# EAGLE library part MCIMX7D12X12 (library imx7d_1200X1200)
MCIMX7D Single ARM Cortex-A7 and Cortex-M4, 512 KB L2 Cache
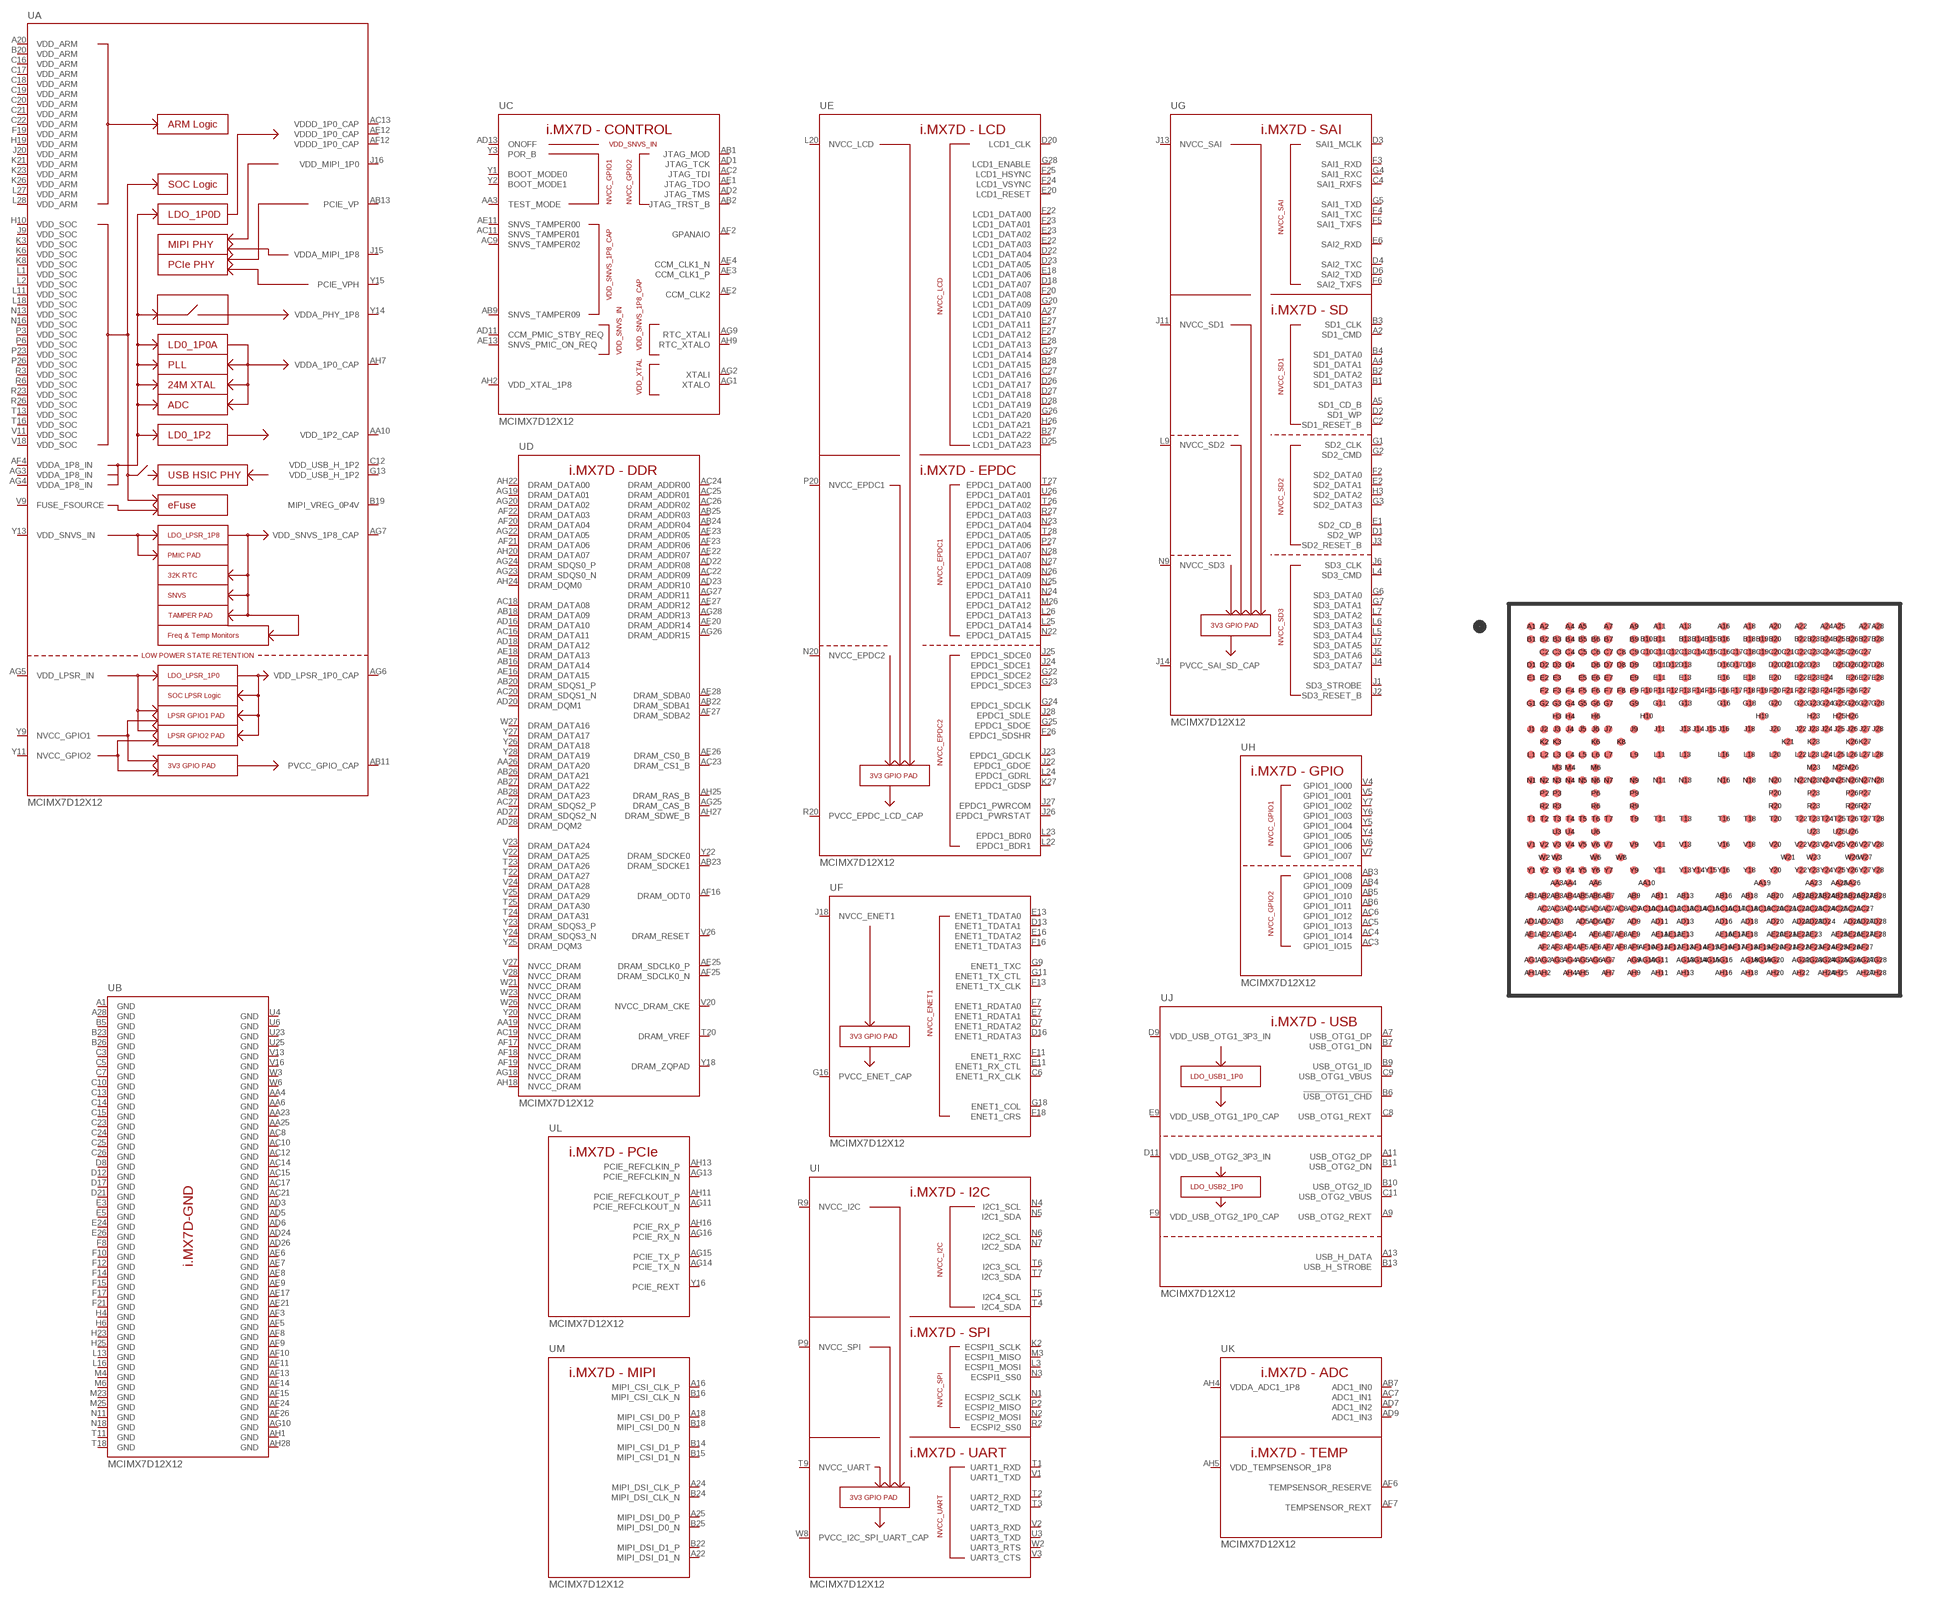
[diagram p0: symbol with the pads of BGA488C40P28X28_1200X1200X110N; footprint BGA488C40P28X28_1200X1200X110N]

Designator prefix U; gates A=I.MX7D-POWER B=I.MX7D-GND C=I.MX7D-CONTROL D=I.MX7D-DDR E=I.MX7D-DISPLAY F=I.MX7D-ENET G=I.MX7D-SAISD H=I.MX7D-GPIO I=I.MX7D-I2CSPIUART J=I.MX7D-USB K=I.MX7D-ADC L=I.MX7D-PCIE M=I.MX7D-MIPI

## MCIMX7D12X12  [BGA488C40P28X28_1200X1200X110N]
A1  B:GND  pwr
A2  G:SD1_CMD
A4  G:SD1_DATA1
A5  G:SD1_CD_B
A7  J:USB_OTG1_DP  pas
A9  J:USB_OTG2_REXT  pas
A11  J:USB_OTG2_DP  pas
A13  J:USB_H_DATA  pas
A16  M:MIPI_CSI_CLK_P  pas
A18  M:MIPI_CSI_D0_P  pas
A20  A:VDD_ARM  pwr
A22  M:MIPI_DSI_D1_N  pas
A24  M:MIPI_DSI_CLK_P  pas
A25  M:MIPI_DSI_D0_P  pas
A27  E:LCD1_DATA10
A28  B:GND  pwr
AA3  C:TEST_MODE  in
AA4  B:GND  pwr
AA6  B:GND  pwr
AA10  A:VDD_1P2_CAP  pwr
AA19  D:NVCC_DRAM  pwr
AA23  B:GND  pwr
AA25  B:GND  pwr
AA26  D:DRAM_DATA20
AB1  C:JTAG_MOD  in
AB2  C:JTAG_TRST_B  in
AB3  H:GPIO1_IO08
AB4  H:GPIO1_IO09
AB5  H:GPIO1_IO10
AB6  H:GPIO1_IO11
AB7  K:ADC1_IN0  pas
AB9  C:SNVS_TAMPER09  pas
AB11  A:PVCC_GPIO_CAP  pwr
AB13  A:PCIE_VP  pas
AB16  D:DRAM_DATA14
AB18  D:DRAM_DATA09
AB20  D:DRAM_SDQS1_P
AB22  D:DRAM_SDBA1
AB23  D:DRAM_SDCKE1
AB24  D:DRAM_ADDR04
AB25  D:DRAM_ADDR03
AB26  D:DRAM_DATA21
AB27  D:DRAM_DATA22
AB28  D:DRAM_DATA23
AC2  C:JTAG_TDI  in
AC3  H:GPIO1_IO15
AC4  H:GPIO1_IO14
AC5  H:GPIO1_IO13
AC6  H:GPIO1_IO12
AC7  K:ADC1_IN1  pas
AC8  B:GND  pwr
AC9  C:SNVS_TAMPER02  pas
AC10  B:GND  pwr
AC11  C:SNVS_TAMPER01  pas
AC12  B:GND  pwr
AC13  A:VDDD_1P0_CAP  pwr
AC14  B:GND  pwr
AC15  B:GND  pwr
AC16  D:DRAM_DATA11
AC17  B:GND  pwr
AC18  D:DRAM_DATA08
AC19  D:NVCC_DRAM  pwr
AC20  D:DRAM_SDQS1_N  pas
AC21  B:GND  pwr
AC22  D:DRAM_ADDR09
AC23  D:DRAM_CS1_B
AC24  D:DRAM_ADDR00
AC25  D:DRAM_ADDR01
AC26  D:DRAM_ADDR02
AC27  D:DRAM_SDQS2_P
AD1  C:JTAG_TCK  in
AD2  C:JTAG_TMS  in
AD3  B:GND  pwr
AD5  B:GND  pwr
AD6  B:GND  pwr
AD7  K:ADC1_IN2  pas
AD9  K:ADC1_IN3  pas
AD11  C:CCM_PMIC_STBY_REQ  pas
AD13  C:ONOFF  pas
AD16  D:DRAM_DATA10
AD18  D:DRAM_DATA12
AD20  D:DRAM_DQM1
AD22  D:DRAM_ADDR08
AD23  D:DRAM_ADDR10
AD24  B:GND  pwr
AD26  B:GND  pwr
AD27  D:DRAM_SDQS2_N  pas
AD28  D:DRAM_DQM2
AE1  C:JTAG_TDO  out
AE2  C:CCM_CLK2  pas
AE3  C:CCM_CLK1_P  pas
AE4  C:CCM_CLK1_N  pas
AE6  B:GND  pwr
AE7  B:GND  pwr
AE8  B:GND  pwr
AE9  B:GND  pwr
AE11  C:SNVS_TAMPER00  pas
AE12  A:VDDD_1P0_CAP  pwr
AE13  C:SNVS_PMIC_ON_REQ  pas
AE16  D:DRAM_DATA15
AE17  B:GND  pwr
AE18  D:DRAM_DATA13
AE20  D:DRAM_ADDR14
AE21  B:GND  pwr
AE22  D:DRAM_ADDR07
AE23  D:DRAM_ADDR05
AE25  D:DRAM_SDCLK0_P
AE26  D:DRAM_CS0_B
AE27  D:DRAM_ADDR12
AE28  D:DRAM_SDBA0
AF2  C:GPANAIO  pas
AF3  B:GND  pwr
AF4  A:VDDA_1P8_IN  pwr
AF5  B:GND  pwr
AF6  K:TEMPSENSOR_RESERVE  pas
AF7  K:TEMPSENSOR_REXT  pas
AF8  B:GND  pwr
AF9  B:GND  pwr
AF10  B:GND  pwr
AF11  B:GND  pwr
AF12  A:VDDD_1P0_CAP  pwr
AF13  B:GND  pwr
AF14  B:GND  pwr
AF15  B:GND  pwr
AF16  D:DRAM_ODT0
AF17  D:NVCC_DRAM  pwr
AF18  D:NVCC_DRAM  pwr
AF19  D:NVCC_DRAM  pwr
AF20  D:DRAM_DATA04
AF21  D:DRAM_DATA06
AF22  D:DRAM_DATA03
AF23  D:DRAM_ADDR06
AF24  B:GND  pwr
AF25  D:DRAM_SDCLK0_N  pas
AF26  B:GND  pwr
AF27  D:DRAM_SDBA2
AG1  C:XTALO  pas
AG2  C:XTALI  pas
AG3  A:VDDA_1P8_IN  pwr
AG4  A:VDDA_1P8_IN  pwr
AG5  A:VDD_LPSR_IN  pwr
AG6  A:VDD_LPSR_1P0_CAP  pwr
AG7  A:VDD_SNVS_1P8_CAP  pwr
AG9  C:RTC_XTALI  pas
AG10  B:GND  pwr
AG11  L:PCIE_REFCLKOUT_N  pas
AG13  L:PCIE_REFCLKIN_N  pas
AG14  L:PCIE_TX_N  pas
AG15  L:PCIE_TX_P  pas
AG16  L:PCIE_RX_N  pas
AG18  D:NVCC_DRAM  pwr
AG19  D:DRAM_DATA01
AG20  D:DRAM_DATA02
AG22  D:DRAM_DATA05
AG23  D:DRAM_SDQS0_N  pas
AG24  D:DRAM_SDQS0_P
AG25  D:DRAM_CAS_B
AG26  D:DRAM_ADDR15
AG27  D:DRAM_ADDR11
AG28  D:DRAM_ADDR13
AH1  B:GND  pwr
AH2  C:VDD_XTAL_1P8  pwr
AH4  K:VDDA_ADC1_1P8  pwr
AH5  K:VDD_TEMPSENSOR_1P8  pwr
AH7  A:VDDA_1P0_CAP  pwr
AH9  C:RTC_XTALO  pas
AH11  L:PCIE_REFCLKOUT_P  pas
AH13  L:PCIE_REFCLKIN_P  pas
AH16  L:PCIE_RX_P  pas
AH18  D:NVCC_DRAM  pwr
AH20  D:DRAM_DATA07
AH22  D:DRAM_DATA00
AH24  D:DRAM_DQM0
AH25  D:DRAM_RAS_B
AH27  D:DRAM_SDWE_B
AH28  B:GND  pwr
B1  G:SD1_DATA3
B2  G:SD1_DATA2
B3  G:SD1_CLK
B4  G:SD1_DATA0
B5  B:GND  pwr
B6  J:!USB_OTG1_CHD  pas
B7  J:USB_OTG1_DN  pas
B9  J:USB_OTG1_ID  pas
B10  J:USB_OTG2_ID  pas
B11  J:USB_OTG2_DN  pas
B13  J:USB_H_STROBE  pas
B14  M:MIPI_CSI_D1_P  pas
B15  M:MIPI_CSI_D1_N  pas
B16  M:MIPI_CSI_CLK_N  pas
B18  M:MIPI_CSI_D0_N  pas
B19  A:MIPI_VREG_0P4V  pas
B20  A:VDD_ARM  pwr
B22  M:MIPI_DSI_D1_P  pas
B23  B:GND  pwr
B24  M:MIPI_DSI_CLK_N  pas
B25  M:MIPI_DSI_D0_N  pas
B26  B:GND  pwr
B27  E:LCD1_DATA22
B28  E:LCD1_DATA15
C2  G:SD1_RESET_B
C3  B:GND  pwr
C4  G:SAI1_RXFS
C5  B:GND  pwr
C6  F:ENET1_RX_CLK
C7  B:GND  pwr
C8  J:USB_OTG1_REXT  pas
C9  J:USB_OTG1_VBUS  pas
C10  B:GND  pwr
C11  J:USB_OTG2_VBUS  pas
C12  A:VDD_USB_H_1P2  pwr
C13  B:GND  pwr
C14  B:GND  pwr
C15  B:GND  pwr
C16  A:VDD_ARM  pwr
C17  A:VDD_ARM  pwr
C18  A:VDD_ARM  pwr
C19  A:VDD_ARM  pwr
C20  A:VDD_ARM  pwr
C21  A:VDD_ARM  pwr
C22  A:VDD_ARM  pwr
C23  B:GND  pwr
C24  B:GND  pwr
C25  B:GND  pwr
C26  B:GND  pwr
C27  E:LCD1_DATA16
D1  G:SD2_WP
D2  G:SD1_WP
D3  G:SAI1_MCLK
D4  G:SAI2_TXC
D6  G:SAI2_TXD
D7  F:ENET1_RDATA2
D8  B:GND  pwr
D9  J:VDD_USB_OTG1_3P3_IN  pwr
D11  J:VDD_USB_OTG2_3P3_IN  pwr
D12  B:GND  pwr
D13  F:ENET1_TDATA1
D16  F:ENET1_RDATA3
D17  B:GND  pwr
D18  E:LCD1_DATA07
D20  E:LCD1_CLK
D21  B:GND  pwr
D22  E:LCD1_DATA04
D23  E:LCD1_DATA05
D25  E:LCD1_DATA23
D26  E:LCD1_DATA17
D27  E:LCD1_DATA18
D28  E:LCD1_DATA19
E1  G:SD2_CD_B
E2  G:SD2_DATA1
E3  B:GND  pwr
E5  B:GND  pwr
E6  G:SAI2_RXD
E7  F:ENET1_RDATA1
E9  J:VDD_USB_OTG1_1P0_CAP  pwr
E11  F:ENET1_RX_CTL
E13  F:ENET1_TDATA0
E16  F:ENET1_TDATA2
E18  E:LCD1_DATA06
E20  E:LCD1_RESET
E22  E:LCD1_DATA03
E23  E:LCD1_DATA02
E24  B:GND  pwr
E26  B:GND  pwr
E27  E:LCD1_DATA11
E28  E:LCD1_DATA13
F2  G:SD2_DATA0
F3  G:SAI1_RXD
F4  G:SAI1_TXC
F5  G:SAI1_TXFS
F6  G:SAI2_TXFS
F7  F:ENET1_RDATA0
F8  B:GND  pwr
F9  J:VDD_USB_OTG2_1P0_CAP  pwr
F10  B:GND  pwr
F11  F:ENET1_RXC
F12  B:GND  pwr
F13  F:ENET1_TX_CLK
F14  B:GND  pwr
F15  B:GND  pwr
F16  F:ENET1_TDATA3
F17  B:GND  pwr
F18  F:ENET1_CRS
F19  A:VDD_ARM  pwr
F20  E:LCD1_DATA08
F21  B:GND  pwr
F22  E:LCD1_DATA00
F23  E:LCD1_DATA01
F24  E:LCD1_VSYNC
F25  E:LCD1_HSYNC
F26  E:EPDC1_SDSHR
F27  E:LCD1_DATA12
G1  G:SD2_CLK
G2  G:SD2_CMD
G3  G:SD2_DATA3
G4  G:SAI1_RXC
G5  G:SAI1_TXD
G6  G:SD3_DATA0
G7  G:SD3_DATA1
G9  F:ENET1_TXC
G11  F:ENET1_TX_CTL
G13  A:VDD_USB_H_1P2  pwr
G16  F:PVCC_ENET_CAP  pwr
G18  F:ENET1_COL
G20  E:LCD1_DATA09
G22  E:EPDC1_SDCE2
G23  E:EPDC1_SDCE3
G24  E:EPDC1_SDCLK
G25  E:EPDC1_SDOE
G26  E:LCD1_DATA20
G27  E:LCD1_DATA14
G28  E:LCD1_ENABLE
H3  G:SD2_DATA2
H4  B:GND  pwr
H6  B:GND  pwr
H10  A:VDD_SOC  pwr
H19  A:VDD_ARM  pwr
H23  B:GND  pwr
H25  B:GND  pwr
H26  E:LCD1_DATA21
J1  G:SD3_STROBE
J2  G:SD3_RESET_B
J3  G:SD2_RESET_B
J4  G:SD3_DATA7
J5  G:SD3_DATA6
J6  G:SD3_CLK
J7  G:SD3_DATA5
J9  A:VDD_SOC  pwr
J11  G:NVCC_SD1  pwr
J13  G:NVCC_SAI  pwr
J14  G:PVCC_SAI_SD_CAP  pwr
J15  A:VDDA_MIPI_1P8  pwr
J16  A:VDD_MIPI_1P0  pwr
J18  F:NVCC_ENET1  pwr
J20  A:VDD_ARM  pwr
J22  E:EPDC1_GDOE
J23  E:EPDC1_GDCLK
J24  E:EPDC1_SDCE1
J25  E:EPDC1_SDCE0
J26  E:EPDC1_PWRSTAT
J27  E:EPDC1_PWRCOM
J28  E:EPDC1_SDLE
K2  I:ECSPI1_SCLK
K3  A:VDD_SOC  pwr
K6  A:VDD_SOC  pwr
K8  A:VDD_SOC  pwr
K21  A:VDD_ARM  pwr
K23  A:VDD_ARM  pwr
K26  A:VDD_ARM  pwr
K27  E:EPDC1_GDSP
L1  A:VDD_SOC  pwr
L2  A:VDD_SOC  pwr
L3  I:ECSPI1_MOSI
L4  G:SD3_CMD
L5  G:SD3_DATA4
L6  G:SD3_DATA3
L7  G:SD3_DATA2
L9  G:NVCC_SD2  pwr
L11  A:VDD_SOC  pwr
L13  B:GND  pwr
L16  B:GND  pwr
L18  A:VDD_SOC  pwr
L20  E:NVCC_LCD  pwr
L22  E:EPDC1_BDR1
L23  E:EPDC1_BDR0
L24  E:EPDC1_GDRL
L25  E:EPDC1_DATA14
L26  E:EPDC1_DATA13
L27  A:VDD_ARM  pwr
L28  A:VDD_ARM  pwr
M3  I:ECSPI1_MISO
M4  B:GND  pwr
M6  B:GND  pwr
M23  B:GND  pwr
M25  B:GND  pwr
M26  E:EPDC1_DATA12
N1  I:ECSPI2_SCLK
N2  I:ECSPI2_MOSI
N3  I:ECSPI1_SS0
N4  I:I2C1_SCL
N5  I:I2C1_SDA
N6  I:I2C2_SCL
N7  I:I2C2_SDA
N9  G:NVCC_SD3  pwr
N11  B:GND  pwr
N13  A:VDD_SOC  pwr
N16  A:VDD_SOC  pwr
N18  B:GND  pwr
N20  E:NVCC_EPDC2  pwr
N22  E:EPDC1_DATA15
N23  E:EPDC1_DATA04
N24  E:EPDC1_DATA11
N25  E:EPDC1_DATA10
N26  E:EPDC1_DATA09
N27  E:EPDC1_DATA08
N28  E:EPDC1_DATA07
P2  I:ECSPI2_MISO
P3  A:VDD_SOC  pwr
P6  A:VDD_SOC  pwr
P9  I:NVCC_SPI  pwr
P20  E:NVCC_EPDC1  pwr
P23  A:VDD_SOC  pwr
P26  A:VDD_SOC  pwr
P27  E:EPDC1_DATA06
R2  I:ECSPI2_SS0
R3  A:VDD_SOC  pwr
R6  A:VDD_SOC  pwr
R9  I:NVCC_I2C  pwr
R20  E:PVCC_EPDC_LCD_CAP  pwr
R23  A:VDD_SOC  pwr
R26  A:VDD_SOC  pwr
R27  E:EPDC1_DATA03
T1  I:UART1_RXD
T2  I:UART2_RXD
T3  I:UART2_TXD
T4  I:I2C4_SDA
T5  I:I2C4_SCL
T6  I:I2C3_SCL
T7  I:I2C3_SDA
T9  I:NVCC_UART  pwr
T11  B:GND  pwr
T13  A:VDD_SOC  pwr
T16  A:VDD_SOC  pwr
T18  B:GND  pwr
T20  D:DRAM_VREF  pas
T22  D:DRAM_DATA27
T23  D:DRAM_DATA26
T24  D:DRAM_DATA31
T25  D:DRAM_DATA30
T26  E:EPDC1_DATA02
T27  E:EPDC1_DATA00
T28  E:EPDC1_DATA05
U3  I:UART3_TXD
U4  B:GND  pwr
U6  B:GND  pwr
U23  B:GND  pwr
U25  B:GND  pwr
U26  E:EPDC1_DATA01
V1  I:UART1_TXD
V2  I:UART3_RXD
V3  I:UART3_CTS
V4  H:GPIO1_IO00
V5  H:GPIO1_IO01
V6  H:GPIO1_IO06
V7  H:GPIO1_IO07
V9  A:FUSE_FSOURCE  pas
V11  A:VDD_SOC  pwr
V13  B:GND  pwr
V16  B:GND  pwr
V18  A:VDD_SOC  pwr
V20  D:NVCC_DRAM_CKE  pwr
V22  D:DRAM_DATA25
V23  D:DRAM_DATA24
V24  D:DRAM_DATA28
V25  D:DRAM_DATA29
V26  D:DRAM_RESET
V27  D:NVCC_DRAM  pwr
V28  D:NVCC_DRAM  pwr
W2  I:UART3_RTS
W3  B:GND  pwr
W6  B:GND  pwr
W8  I:PVCC_I2C_SPI_UART_CAP  pwr
W21  D:NVCC_DRAM  pwr
W23  D:NVCC_DRAM  pwr
W26  D:NVCC_DRAM  pwr
W27  D:DRAM_DATA16
Y1  C:BOOT_MODE0
Y2  C:BOOT_MODE1
Y3  C:POR_B  in
Y4  H:GPIO1_IO05
Y5  H:GPIO1_IO04
Y6  H:GPIO1_IO03
Y7  H:GPIO1_IO02
Y9  A:NVCC_GPIO1  pwr
Y11  A:NVCC_GPIO2  pwr
Y13  A:VDD_SNVS_IN  pwr
Y14  A:VDDA_PHY_1P8  pwr
Y15  A:PCIE_VPH  pas
Y16  L:PCIE_REXT  pas
Y18  D:DRAM_ZQPAD  pas
Y20  D:NVCC_DRAM  pwr
Y22  D:DRAM_SDCKE0
Y23  D:DRAM_SDQS3_P
Y24  D:DRAM_SDQS3_N  pas
Y25  D:DRAM_DQM3
Y26  D:DRAM_DATA18
Y27  D:DRAM_DATA17
Y28  D:DRAM_DATA19

## Footprint BGA488C40P28X28_1200X1200X110N (pad centres in mm)
smd 0.25 x 0.25: A1 -5.4,5.4; A2 -5,5.4; A4 -4.2,5.4; A5 -3.8,5.4; A7 -3,5.4; A9 -2.2,5.4; A11 -1.4,5.4; A13 -0.6,5.4; A16 0.6,5.4; A18 1.4,5.4; A20 2.2,5.4; A22 3,5.4; A24 3.8,5.4; A25 4.2,5.4; A27 5,5.4; A28 5.4,5.4; AA3 -4.6,-2.6; AA4 -4.2,-2.6; AA6 -3.4,-2.6; AA10 -1.8,-2.6; AA19 1.8,-2.6; AA23 3.4,-2.6; AA25 4.2,-2.6; AA26 4.6,-2.6; AB1 -5.4,-3; AB2 -5,-3; AB3 -4.6,-3; AB4 -4.2,-3; AB5 -3.8,-3; AB6 -3.4,-3; AB7 -3,-3; AB9 -2.2,-3; AB11 -1.4,-3; AB13 -0.6,-3; AB16 0.6,-3; AB18 1.4,-3; AB20 2.2,-3; AB22 3,-3; AB23 3.4,-3; AB24 3.8,-3; AB25 4.2,-3; AB26 4.6,-3; AB27 5,-3; AB28 5.4,-3; AC2 -5,-3.4; AC3 -4.6,-3.4; AC4 -4.2,-3.4; AC5 -3.8,-3.4; AC6 -3.4,-3.4; AC7 -3,-3.4; AC8 -2.6,-3.4; AC9 -2.2,-3.4; AC10 -1.8,-3.4; AC11 -1.4,-3.4; AC12 -1,-3.4; AC13 -0.6,-3.4; AC14 -0.2,-3.4; AC15 0.2,-3.4; AC16 0.6,-3.4; AC17 1,-3.4; AC18 1.4,-3.4; AC19 1.8,-3.4; AC20 2.2,-3.4; AC21 2.6,-3.4; AC22 3,-3.4; AC23 3.4,-3.4; AC24 3.8,-3.4; AC25 4.2,-3.4; AC26 4.6,-3.4; AC27 5,-3.4; AD1 -5.4,-3.8; AD2 -5,-3.8; AD3 -4.6,-3.8; AD5 -3.8,-3.8; AD6 -3.4,-3.8; AD7 -3,-3.8; AD9 -2.2,-3.8; AD11 -1.4,-3.8; AD13 -0.6,-3.8; AD16 0.6,-3.8; AD18 1.4,-3.8; AD20 2.2,-3.8; AD22 3,-3.8; AD23 3.4,-3.8; AD24 3.8,-3.8; AD26 4.6,-3.8; AD27 5,-3.8; AD28 5.4,-3.8; AE1 -5.4,-4.2; AE2 -5,-4.2; AE3 -4.6,-4.2; AE4 -4.2,-4.2; AE6 -3.4,-4.2; AE7 -3,-4.2; AE8 -2.6,-4.2; AE9 -2.2,-4.2; AE11 -1.4,-4.2; AE12 -1,-4.2; AE13 -0.6,-4.2; AE16 0.6,-4.2; AE17 1,-4.2; AE18 1.4,-4.2; AE20 2.2,-4.2; AE21 2.6,-4.2; AE22 3,-4.2; AE23 3.4,-4.2; AE25 4.2,-4.2; AE26 4.6,-4.2; AE27 5,-4.2; AE28 5.4,-4.2; AF2 -5,-4.6; AF3 -4.6,-4.6; AF4 -4.2,-4.6; AF5 -3.8,-4.6; AF6 -3.4,-4.6; AF7 -3,-4.6; AF8 -2.6,-4.6; AF9 -2.2,-4.6; AF10 -1.8,-4.6; AF11 -1.4,-4.6; AF12 -1,-4.6; AF13 -0.6,-4.6; AF14 -0.2,-4.6; AF15 0.2,-4.6; AF16 0.6,-4.6; AF17 1,-4.6; AF18 1.4,-4.6; AF19 1.8,-4.6; AF20 2.2,-4.6; AF21 2.6,-4.6; AF22 3,-4.6; AF23 3.4,-4.6; AF24 3.8,-4.6; AF25 4.2,-4.6; AF26 4.6,-4.6; AF27 5,-4.6; AG1 -5.4,-5; AG2 -5,-5; AG3 -4.6,-5; AG4 -4.2,-5; AG5 -3.8,-5; AG6 -3.4,-5; AG7 -3,-5; AG9 -2.2,-5; AG10 -1.8,-5; AG11 -1.4,-5; AG13 -0.6,-5; AG14 -0.2,-5; AG15 0.2,-5; AG16 0.6,-5; AG18 1.4,-5; AG19 1.8,-5; AG20 2.2,-5; AG22 3,-5; AG23 3.4,-5; AG24 3.8,-5; AG25 4.2,-5; AG26 4.6,-5; AG27 5,-5; AG28 5.4,-5; AH1 -5.4,-5.4; AH2 -5,-5.4; AH4 -4.2,-5.4; AH5 -3.8,-5.4; AH7 -3,-5.4; AH9 -2.2,-5.4; AH11 -1.4,-5.4; AH13 -0.6,-5.4; AH16 0.6,-5.4; AH18 1.4,-5.4; AH20 2.2,-5.4; AH22 3,-5.4; AH24 3.8,-5.4; AH25 4.2,-5.4; AH27 5,-5.4; AH28 5.4,-5.4; B1 -5.4,5; B2 -5,5; B3 -4.6,5; B4 -4.2,5; B5 -3.8,5; B6 -3.4,5; B7 -3,5; B9 -2.2,5; B10 -1.8,5; B11 -1.4,5; B13 -0.6,5; B14 -0.2,5; B15 0.2,5; B16 0.6,5; B18 1.4,5; B19 1.8,5; B20 2.2,5; B22 3,5; B23 3.4,5; B24 3.8,5; B25 4.2,5; B26 4.6,5; B27 5,5; B28 5.4,5; C2 -5,4.6; C3 -4.6,4.6; C4 -4.2,4.6; C5 -3.8,4.6; C6 -3.4,4.6; C7 -3,4.6; C8 -2.6,4.6; C9 -2.2,4.6; C10 -1.8,4.6; C11 -1.4,4.6; C12 -1,4.6; C13 -0.6,4.6; C14 -0.2,4.6; C15 0.2,4.6; C16 0.6,4.6; C17 1,4.6; C18 1.4,4.6; C19 1.8,4.6; C20 2.2,4.6; C21 2.6,4.6; C22 3,4.6; C23 3.4,4.6; C24 3.8,4.6; C25 4.2,4.6; C26 4.6,4.6; C27 5,4.6; D1 -5.4,4.2; D2 -5,4.2; D3 -4.6,4.2; D4 -4.2,4.2; D6 -3.4,4.2; D7 -3,4.2; D8 -2.6,4.2; D9 -2.2,4.2; D11 -1.4,4.2; D12 -1,4.2; D13 -0.6,4.2; D16 0.6,4.2; D17 1,4.2; D18 1.4,4.2; D20 2.2,4.2; D21 2.6,4.2; D22 3,4.2; D23 3.4,4.2; D25 4.2,4.2; D26 4.6,4.2; D27 5,4.2; D28 5.4,4.2; E1 -5.4,3.8; E2 -5,3.8; E3 -4.6,3.8; E5 -3.8,3.8; E6 -3.4,3.8; E7 -3,3.8; E9 -2.2,3.8; E11 -1.4,3.8; E13 -0.6,3.8; E16 0.6,3.8; E18 1.4,3.8; E20 2.2,3.8; E22 3,3.8; E23 3.4,3.8; E24 3.8,3.8; E26 4.6,3.8; E27 5,3.8; E28 5.4,3.8; F2 -5,3.4; F3 -4.6,3.4; F4 -4.2,3.4; F5 -3.8,3.4; F6 -3.4,3.4; F7 -3,3.4; F8 -2.6,3.4; F9 -2.2,3.4; F10 -1.8,3.4; F11 -1.4,3.4; F12 -1,3.4; F13 -0.6,3.4; F14 -0.2,3.4; F15 0.2,3.4; F16 0.6,3.4; F17 1,3.4; F18 1.4,3.4; F19 1.8,3.4; F20 2.2,3.4; F21 2.6,3.4; F22 3,3.4; F23 3.4,3.4; F24 3.8,3.4; F25 4.2,3.4; F26 4.6,3.4; F27 5,3.4; G1 -5.4,3; G2 -5,3; G3 -4.6,3; G4 -4.2,3; G5 -3.8,3; G6 -3.4,3; G7 -3,3; G9 -2.2,3; G11 -1.4,3; G13 -0.6,3; G16 0.6,3; G18 1.4,3; G20 2.2,3; G22 3,3; G23 3.4,3; G24 3.8,3; G25 4.2,3; G26 4.6,3; G27 5,3; G28 5.4,3; H3 -4.6,2.6; H4 -4.2,2.6; H6 -3.4,2.6; H10 -1.8,2.6; H19 1.8,2.6; H23 3.4,2.6; H25 4.2,2.6; H26 4.6,2.6; J1 -5.4,2.2; J2 -5,2.2; J3 -4.6,2.2; J4 -4.2,2.2; J5 -3.8,2.2; J6 -3.4,2.2; J7 -3,2.2; J9 -2.2,2.2; J11 -1.4,2.2; J13 -0.6,2.2; J14 -0.2,2.2; J15 0.2,2.2; J16 0.6,2.2; J18 1.4,2.2; J20 2.2,2.2; J22 3,2.2; J23 3.4,2.2; J24 3.8,2.2; J25 4.2,2.2; J26 4.6,2.2; J27 5,2.2; J28 5.4,2.2; K2 -5,1.8; K3 -4.6,1.8; K6 -3.4,1.8; K8 -2.6,1.8; K21 2.6,1.8; K23 3.4,1.8; K26 4.6,1.8; K27 5,1.8; L1 -5.4,1.4; L2 -5,1.4; L3 -4.6,1.4; L4 -4.2,1.4; L5 -3.8,1.4; L6 -3.4,1.4; L7 -3,1.4; L9 -2.2,1.4; L11 -1.4,1.4; L13 -0.6,1.4; L16 0.6,1.4; L18 1.4,1.4; L20 2.2,1.4; L22 3,1.4; L23 3.4,1.4; L24 3.8,1.4; L25 4.2,1.4; L26 4.6,1.4; L27 5,1.4; L28 5.4,1.4; M3 -4.6,1; M4 -4.2,1; M6 -3.4,1; M23 3.4,1; M25 4.2,1; M26 4.6,1; N1 -5.4,0.6; N2 -5,0.6; N3 -4.6,0.6; N4 -4.2,0.6; N5 -3.8,0.6; N6 -3.4,0.6; N7 -3,0.6; N9 -2.2,0.6; N11 -1.4,0.6; N13 -0.6,0.6; N16 0.6,0.6; N18 1.4,0.6; N20 2.2,0.6; N22 3,0.6; N23 3.4,0.6; N24 3.8,0.6; N25 4.2,0.6; N26 4.6,0.6; N27 5,0.6; N28 5.4,0.6; P2 -5,0.2; P3 -4.6,0.2; P6 -3.4,0.2; P9 -2.2,0.2; P20 2.2,0.2; P23 3.4,0.2; P26 4.6,0.2; P27 5,0.2; R2 -5,-0.2; R3 -4.6,-0.2; R6 -3.4,-0.2; R9 -2.2,-0.2; R20 2.2,-0.2; R23 3.4,-0.2; R26 4.6,-0.2; R27 5,-0.2; T1 -5.4,-0.6; T2 -5,-0.6; T3 -4.6,-0.6; T4 -4.2,-0.6; T5 -3.8,-0.6; T6 -3.4,-0.6; T7 -3,-0.6; T9 -2.2,-0.6; T11 -1.4,-0.6; T13 -0.6,-0.6; T16 0.6,-0.6; T18 1.4,-0.6; T20 2.2,-0.6; T22 3,-0.6; T23 3.4,-0.6; T24 3.8,-0.6; T25 4.2,-0.6; T26 4.6,-0.6; T27 5,-0.6; T28 5.4,-0.6; U3 -4.6,-1; U4 -4.2,-1; U6 -3.4,-1; U23 3.4,-1; U25 4.2,-1; U26 4.6,-1; V1 -5.4,-1.4; V2 -5,-1.4; V3 -4.6,-1.4; V4 -4.2,-1.4; V5 -3.8,-1.4; V6 -3.4,-1.4; V7 -3,-1.4; V9 -2.2,-1.4; V11 -1.4,-1.4; V13 -0.6,-1.4; V16 0.6,-1.4; V18 1.4,-1.4; V20 2.2,-1.4; V22 3,-1.4; V23 3.4,-1.4; V24 3.8,-1.4; V25 4.2,-1.4; V26 4.6,-1.4; V27 5,-1.4; V28 5.4,-1.4; W2 -5,-1.8; W3 -4.6,-1.8; W6 -3.4,-1.8; W8 -2.6,-1.8; W21 2.6,-1.8; W23 3.4,-1.8; W26 4.6,-1.8; W27 5,-1.8; Y1 -5.4,-2.2; Y2 -5,-2.2; Y3 -4.6,-2.2; Y4 -4.2,-2.2; Y5 -3.8,-2.2; Y6 -3.4,-2.2; Y7 -3,-2.2; Y9 -2.2,-2.2; Y11 -1.4,-2.2; Y13 -0.6,-2.2; Y14 -0.2,-2.2; Y15 0.2,-2.2; Y16 0.6,-2.2; Y18 1.4,-2.2; Y20 2.2,-2.2; Y22 3,-2.2; Y23 3.4,-2.2; Y24 3.8,-2.2; Y25 4.2,-2.2; Y26 4.6,-2.2; Y27 5,-2.2; Y28 5.4,-2.2